# Altium schematic symbol library test&pcb.SchLib: 18 symbols
Pins are listed as number, name and electrical type; pins without a type are passive.

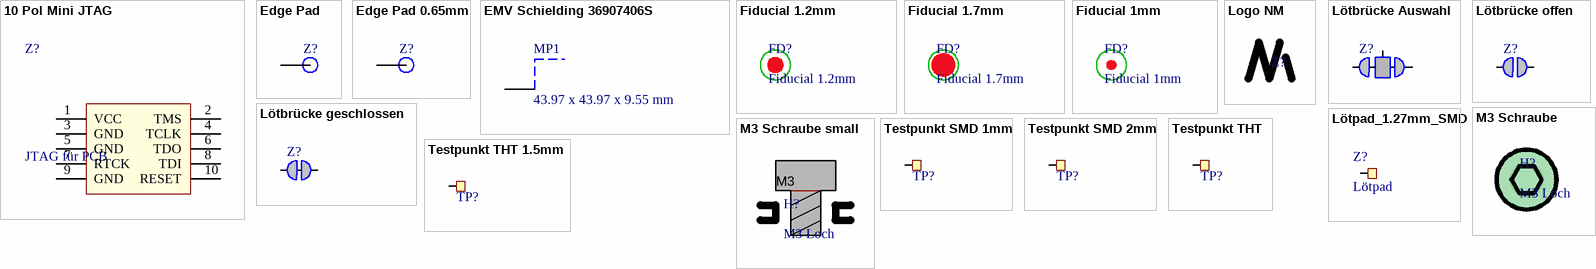
[diagram p0: symbols 10 Pol Mini JTAG to Testpunkt THT 1.5mm]

## 10 Pol Mini JTAG
designator Z?, comment JTAG für PCB  (no BOM)
JTAG Schnittstelle für Leiterplattenunterseite. Kontakte über Federkontakte auf testadapter erreichbar; Manufacturer: Mikromess GmbH; Manufacturer Part Number: PCB Component; Value: PCB Component; Created by: Nils Minor
footprint JTAG_MIKROMESS
pins: 1 VCC, 2 TMS, 3 GND, 4 TCLK, 5 GND, 6 TDO, 7 RTCK, 8 TDI, 9 GND, 10 RESET

## Edge Pad
designator Z?  (value not drawn)  (no BOM)
Custom Designed Pad for PCB Border; Manufacturer: Mikromess GmbH; Value: PCB Component; Created by: Nils Minor; Manufacturer Part Number: PCB Component
footprint PSOM edge via
pins: 1

## Edge Pad 0.65mm
designator Z?, comment Edge Pad  (value not drawn)  (no BOM)
Custom Designed Pad for PCB Border; Manufacturer: Mikromess GmbH; Value: PCB Component; Created by: Nils Minor; Manufacturer Part Number: PCB Component
footprint EDGE VIA
pins: 1

## EMV Schielding 36907406S
designator MP1, comment 43.97 x 43.97 x 9.55 mm
WE-SHC Shielding Cabinet, One Piece, 43.97 x 43.97 x 9.55 mm; Manufacturer: Würth Elektronik; Manufacturer Part Number: 36907406S; Value: EMV Case; Created by: Nils Minor
footprint 36907406S (Footprint not found)
pins: 1

## Fiducial 1.2mm
designator FD?  (no BOM)
Manufacturer: Mikromess GmbH; Manufacturer Part Number: PCB Component; Value: PCB Component; Created by: Nils Minor
footprint Fiducial 1.2mm

## Fiducial 1.7mm
designator FD?  (no BOM)
Manufacturer: Mikromess GmbH; Manufacturer Part Number: PCB Component; Value: PCB Component; Created by: Nils Minor
footprint Fiducial 1.7mm

## Fiducial 1mm
designator FD?  (no BOM)
Manufacturer: Mikromess GmbH; Manufacturer Part Number: PCB Component; Value: PCB Component; Created by: Nils Minor
footprint Fiducial 1MM

## Logo NM
designator Z?, comment NM Logo  (value not drawn)  (no BOM)
Logo Nils Minor; Manufacturer: Mikromess GmbH; Manufacturer Part Number: PCB Component; Value: PCB Component; Created by: Nils Minor
footprint NM_Logo (Nils Minor Logo)

## Lötbrücke Auswahl
designator Z?, comment PCB Component  (value not drawn)  (net tie, no BOM)
Lötbrücke zur Auswahl; Manufacturer: Mikromess GmbH; Created by: Nils Minor; Manufacturer Part Number: PCB Component; Value: PCB Component
footprint Solderbridge_Selection
pins: 1, 2, 3

## Lötbrücke geschlossen
designator Z?, comment PCB Component  (value not drawn)  (net tie, no BOM)
Lötbrücke geschlossen; Manufacturer: Mikromess GmbH; Created by: Nils Minor; Manufacturer Part Number: PCB Component; Value: PCB Component
footprint Solderbridge_Shorted
pins: 1 0, 2 1

## Lötbrücke offen
designator Z?, comment PCB Component  (value not drawn)  (net tie, no BOM)
Lötbrücke offen; Manufacturer: Mikromess GmbH; Created by: Nils Minor; Manufacturer Part Number: PCB Component; Value: PCB Component
footprint Solderbridge
pins: 1 0, 2 1

## Lötpad_1.27mm_SMD
designator Z?, comment Lötpad  (net tie, no BOM)
Lötpad mit 1.27mm loch; Manufacturer: Mikromess GmbH; Manufacturer Part Number: PCB Component; Value: PCB Component; Created by: Nils Minor
footprint Lötpad_1.27mm_SMD
pins: 1

## M3 Schraube
designator H?, comment M3 Loch  (no BOM)
M3 Loch für Leiterplattenbefestigung; Manufacturer: Mikromess GmbH; Value: PCB Component; Created by: Nils Minor; Manufacturer Part Number: PCB Component
footprint M3 Loch

## M3 Schraube small
designator H?, comment M3 Loch  (no BOM)
M3 Loch für Leiterplattenbefestigung; Manufacturer: Mikromess GmbH; Value: PCB Component; Created by: Nils Minor; Manufacturer Part Number: PCB Component
footprint M3 small
text: M3

## Testpunkt SMD 1mm
designator TP?, comment PCB Component  (value not drawn)  (no BOM)
Testpunkt SMD 1mm; Manufacturer: Mikromess GmbH; Created by: Nils Minor; Manufacturer Part Number: PCB Component; Value: PCB Component
footprint TP_SMD_Ø1.0mm
pins: 1

## Testpunkt SMD 2mm
designator TP?, comment PCB Component  (value not drawn)  (no BOM)
Testpunkt SMD 2mm; Manufacturer: Mikromess GmbH; Created by: Nils Minor; Manufacturer Part Number: PCB Component; Value: PCB Component
footprint TP_SMD_Ø2.0mm
pins: 1

## Testpunkt THT
designator TP?, comment PCB Component  (value not drawn)  (no BOM)
Testpoint, through hole; Manufacturer: Mikromess GmbH; Created by: Nils Minor; Manufacturer Part Number: PCB Component; Value: PCB Component
footprint TESTPAD-TH
pins: 1

## Testpunkt THT 1.5mm
designator TP?, comment PCB Component  (value not drawn)  (no BOM)
Testpoint, through hole; Manufacturer: Mikromess GmbH; Created by: Nils Minor; Manufacturer Part Number: PCB Component; Value: PCB Component
footprint TESTPAD-TH  1.5mm
pins: 1